# Altium footprint library HC_PCBConnector.PcbLib: 2 footprints
Each footprint in its own frame and in the unit in brackets; x right, y up, seen from the top. Pads: shape width x height; smd on the part's side, far side on the other; paste and mask are expansions set on the pad; w line width, h text height; cw(c..) or ccw(c..) is an arc to the next point about the centre after c.
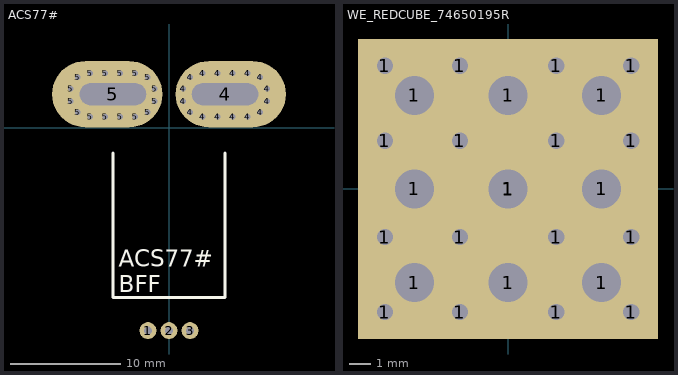
[diagram p0: the footprints below, top view; thin cyan lines are the x and y axes]

## ACS77# [mil]
height 295.28
pads (37):
  round 60 hole 30: 1(-75,-722.52) 2(0,-722.52) 3(75,-722.52)
  round 40 hole 19.68: 4(50,95) 4(50,140) 4(75,55) 4(75,180) 4(120,40) 4(120,195) 4(173.33,40) 4(173.33,195) 4(226.67,40) 4(226.67,195) 4(280,40) 4(280,195) 4(325,55) 4(325,180) 4(350,95) 4(350,140) 5(-350,95) 5(-350,140) 5(-325,55) 5(-325,180) 5(-280,40) 5(-280,195) 5(-226.67,40) 5(-226.67,195) 5(-173.33,40) 5(-173.33,195) 5(-120,40) 5(-120,195) 5(-75,55) 5(-75,180) 5(-50,95) 5(-50,140)
  oval 393.7x236.22 hole 78.74 slot 236.22 at 0 deg copper offset 20,0: 4(200,120)
  oval 393.7x236.22 hole 78.74 slot 236.22 at 0 deg copper offset -20,0: 5(-200,120)
Top Overlay:
  lines w10: -200,-90 -200,-605 200,-605 200,-90
  text "ACS77# / BFF" at -180,-585 h60
3D body: height 275, standoff 10, extent -200,-605 200,-90
3D body: height 157.48, standoff 118.11, extent -280,-455 -120,140
3D body: height 157.48, standoff 118.11, extent 120,-455 280,140
3D body: height 120, standoff -140, extent 120,95 280,140
3D body: height 120, standoff -140, extent -280,95 -120,140

## WE_REDCUBE_74650195R [mil] "Uses the https://au.rs-online.com/web/p/power-element-bushes/1424113/"
height 275.59
pads (26):
  round 60 hole 30: 1(-230,-230) 1(-230,-90) 1(-230,90) 1(-230,230) 1(-90,-230) 1(-90,-90) 1(-90,90) 1(-90,230) 1(90,-230) 1(90,-90) 1(90,90) 1(90,230) 1(230,-230) 1(230,-90) 1(230,90) 1(230,230)
  round 125.98 hole 72.83: 1(-174.61,-174.61) 1(-174.61,0) 1(-174.61,174.61) 1(0,-174.61) 1(0,0) 1(0,174.61) 1(174.61,-174.61) 1(174.61,0) 1(174.61,174.61)
  rect 560x560 all layers, no hole: 1(0,0)
3D body "WE_REDCUBE_M5_74650195R.stp": height 275.59, standoff -98.43, extent -196.85,-196.85 196.85,196.85